# Altium footprint library RES 3296.PcbLib: 1 footprints
Each footprint in its own frame and in the unit in brackets; x right, y up, seen from the top. Pads: shape width x height; smd on the part's side, far side on the other; paste and mask are expansions set on the pad; w line width, h text height; cw(c..) or ccw(c..) is an arc to the next point about the centre after c.
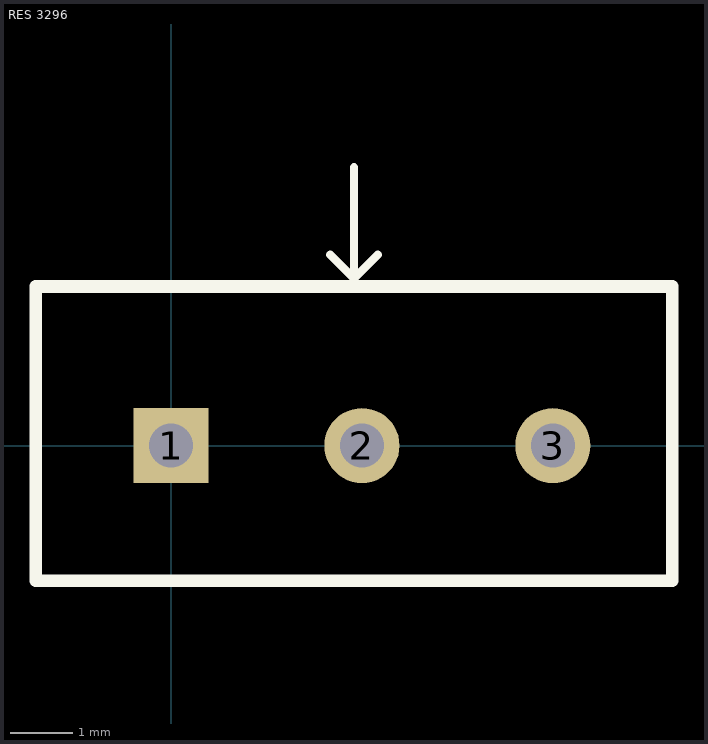
[diagram p0: the footprint, top view; thin cyan lines are the x and y axes]

## RES 3296 [mm]
pads (3):
  rect 1.2x1.2 hole 0.7: 1(0,0)
  round 1.2 hole 0.7: 2(3.048,0) 3(6.096,0)
Top Overlay:
  lines w0.135: 2.54,3.048 2.921,2.667 ; 2.921,4.445 2.921,2.667 ; 3.302,3.048 2.921,2.667
  lines w0.2: -2.159,-2.159 -2.159,2.54 4.064,2.54 8.001,2.54 8.001,-2.159 -2.159,-2.159